# Altium footprint library Smart_Pillbox_RF03.PcbLib: 22 footprints (part 2 of 2)
Each footprint in its own frame and in the unit in brackets; x right, y up, seen from the top. Pads: shape width x height; smd on the part's side, far side on the other; paste and mask are expansions set on the pad; w line width, h text height; cw(c..) or ccw(c..) is an arc to the next point about the centre after c.
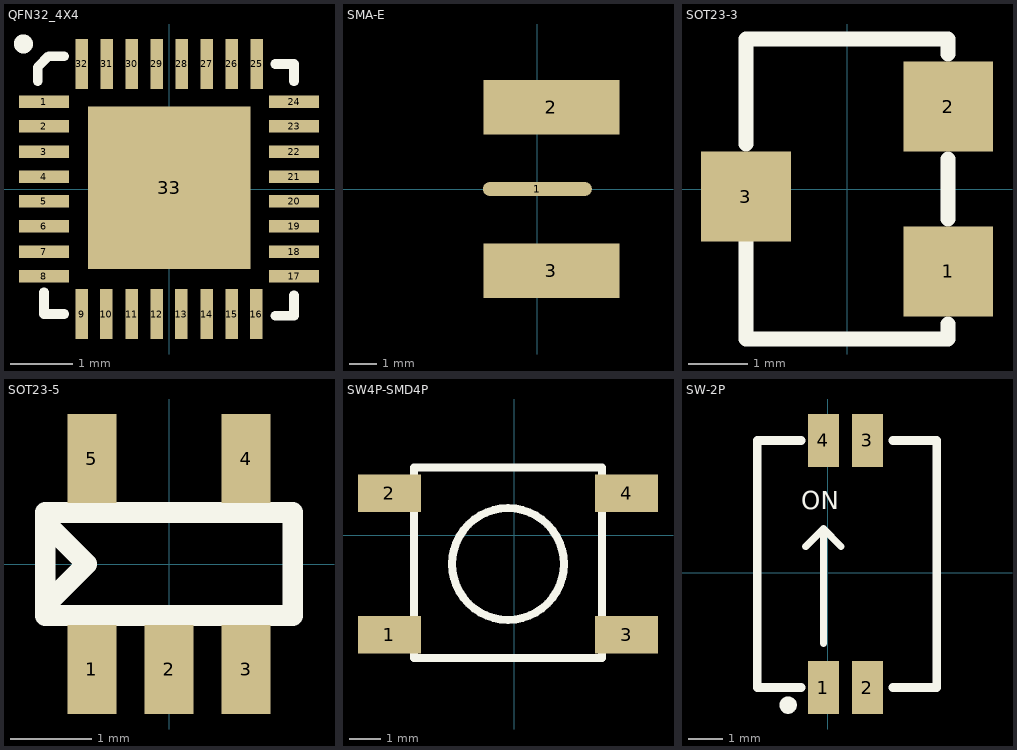
[diagram p1: the footprints below, top view; thin cyan lines are the x and y axes]

## QFN32_4X4 [mm]
height 6.35
pads (33):
  rect 0.8x0.2 smd: 1(-2,1.4) 2(-2,1) 3(-2,0.6) 4(-2,0.2) 5(-2,-0.2) 6(-2,-0.6) 7(-2,-1) 8(-2,-1.4) 17(2,-1.4) 18(2,-1) 19(2,-0.6) 20(2,-0.2) 21(2,0.2) 22(2,0.6) 23(2,1) 24(2,1.4)
  rect 0.2x0.8 smd: 9(-1.4,-2) 10(-1,-2) 11(-0.6,-2) 12(-0.2,-2) 13(0.2,-2) 14(0.6,-2) 15(1,-2) 16(1.4,-2) 25(1.4,2) 26(1,2) 27(0.6,2) 28(0.2,2) 29(-0.2,2) 30(-0.6,2) 31(-1,2) 32(-1.4,2)
  rect 2.6x2.6 smd: 33(0,0.019)
Top Overlay:
  lines w0.152: -2.1,1.725 -2.1,1.95 -1.925,2.125 -1.675,2.125 ; -2,-1.65 -2,-2 -1.675,-2 ; 1.7,-2.025 2,-2.025 2,-1.7 ; 1.7,2 2,2 2,1.725
  lines w0.254: -2.319,2.299 cw(c-2.329,2.322) -2.307,2.309

## SMA-E [mm]
height 6.35
pads (3):
  oval 4x0.508 smd: 1(0,0)
  rect 5x2 smd: 2(0.515,3) 3(0.515,-3)
Bottom Solder:
  rectangle: -2.087,-4.102 3.106,-1.905
  rectangle: -2.086,1.905 3.106,4.102
  region: -2.086,4.102 -2.086,-3.975 -0.359,-3.975 -0.359,4.102

## SOT23-3 [mil]
pads (3):
  rect 60x60 smd: 1(67.5,-55) 2(67.5,55) 3(-67.5,-5)
Top Overlay:
  lines w10: -67.5,-35 -67.5,-100 67.5,-100 67.5,-90 ; -67.5,30 -67.5,100 67.5,100 67.5,90 ; 67.5,-20 67.5,20

## SOT23-5 [mm]
pads (5):
  rect 0.6x1.1 smd: 1(-0.95,-1.3) 2(0,-1.3) 3(0.95,-1.3) 4(0.95,1.3) 5(-0.95,1.3)
Top Overlay:
  lines w0.254: -1.524,-0.508 -1.016,0 -1.524,0.508 ; -1.524,-0.635 1.524,-0.635 1.524,0.635 -1.524,0.635 -1.524,-0.635

## SW4P-SMD4P [mm]
pads (4):
  rect 2x1.2 smd: 1(-3.979,-3.164) 2(-3.979,1.336) 3(3.572,-3.164) 4(3.572,1.336)
Top Overlay:
  circle w0.254: c-0.203,-0.914 r1.778
  lines w0.254: -3.203,-3.914 2.797,-3.914 2.797,2.159 -3.203,2.159 -3.203,-3.914

## SW-2P [mil]
height 68.9
pads (5):
  rect 35x60 smd: 1(-5,-130) 2(45,-130) 3(45,150) 4(-5,150)
  round 20 on Top Overlay: ""(-45,-150)
Top Overlay:
  lines w8: -25,30 -5,50 ; -5,-80 -5,50 ; 15,30 -5,50
  lines w10: -30,-130 -80,-130 -80,150 -30,150 ; 73.54,-130 123.54,-130 123.54,150 73.54,150
  text "ON" at -30,65 h35